# Altium footprint library nanotec.PCBLIB: 1 footprints
Each footprint in its own frame and in the unit in brackets; x right, y up, seen from the top. Pads: shape width x height; smd on the part's side, far side on the other; paste and mask are expansions set on the pad; w line width, h text height; cw(c..) or ccw(c..) is an arc to the next point about the centre after c.
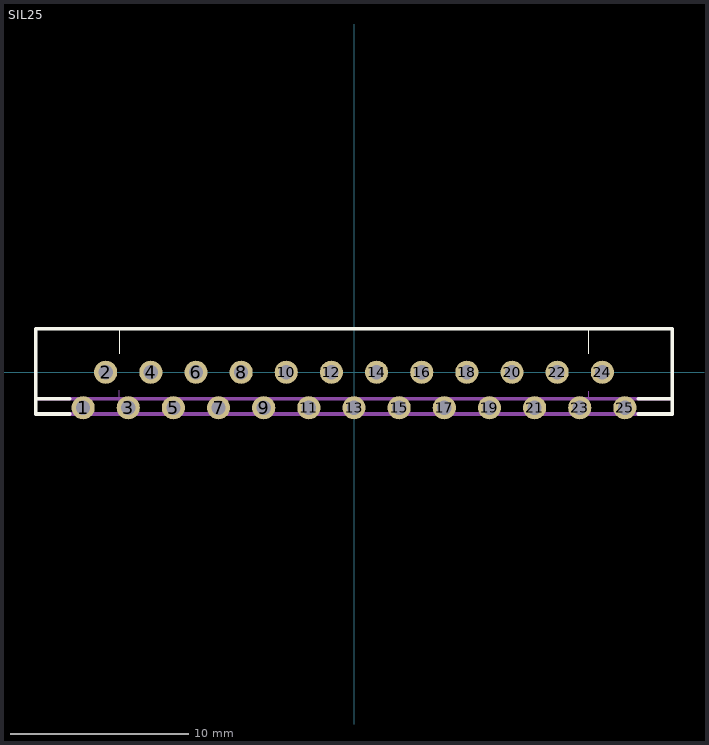
[diagram p0: the footprint, top view; thin cyan lines are the x and y axes]

## SIL25 [mil]
pads (25):
  round 51.18 hole 31.5: 1(-600,-78.74) 2(-550,0) 3(-500,-78.74) 4(-450,0) 5(-400,-78.74) 6(-350,0) 7(-300,-78.74) 8(-250,0) 9(-200,-78.74) 10(-150,0) 11(-100,-78.74) 12(-50,0) 13(0,-78.74) 14(50,0) 15(100,-78.74) 16(150,0) 17(200,-78.74) 18(250,0) 19(300,-78.74) 20(350,0) 21(400,-78.74) 22(450,0) 23(500,-78.74) 24(550,0) 25(600,-78.74)
Top Overlay:
  lines w0: -519.69,40.67 -519.69,92.52 ; 519.69,40.67 519.69,94.49 519.69,40.67
  lines w8: -700.79,-59.06 -629.92,-59.06 ; -629.92,-92.52 -704.72,-92.52 -704.72,96.46 704.72,96.46 704.72,-92.52 629.92,-92.52 ; 629.92,-59.06 700.79,-59.06
Mechanical 16:
  lines w0: -519.69,-89.57 -519.69,-39.69 ; 519.69,-89.57 519.69,-41.65
  lines w8: -704.72,-92.52 704.72,-92.52 ; -700.79,-59.06 700.79,-59.06